# Altium schematic symbol library PCB_Project.SCHLIB: 8 symbols
Pins are listed as number, name and electrical type; pins without a type are passive.

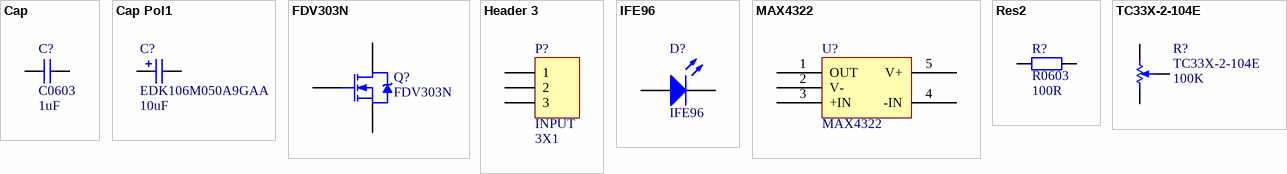
[diagram p0: symbols Cap to TC33X-2-104E]

## Cap
designator C?, comment C0603  value 1uF
Ceramic Capacitor
footprint 1608[0603] (Chip Capacitor, Body 1.6x0.8mm, IPC High Density)
pins: 1, 2

## Cap Pol1
designator C?, comment EDK106M050A9GAA  value 10uF
Aluminium Electrolytic Capacitor
footprint EDK106M050A9GAA (Aluminum Electrolytic Capacitor, Body 6,60x6,60x5,40mm, IPC Low Density)
pins: 1, 2
1 alternate drawing of the same symbol

## FDV303N
designator Q?
N-channel MOS FET Transistor
footprint SOT23_M (SOT23, 3-Leads, Body 2.9x1.3mm, Pitch 0.95mm, Lead Span 2.3mm - Reverse Pinning, IPC Low Density)
pins: 1 G, 2 D, 3 S

## Header 3
designator P?, comment INPUT  value 3X1
Header, 3-Pin
footprint HDR1X3 (Connector; Header; 3 Position)
pins: 1, 2, 3

## IFE96
designator D?
Red LED For PMMA
footprint IFE96
pins: 1 K, 2 A

## MAX4322
designator U?
Single Supply Operational Amplifier
footprint MAX4322_SOT23-5 (SOT23, 5-Leads, Body 2,90x2,80mm, Pitch 0,95mm, IPC Medium Density)
pins: 1 OUT, 2 V-, 3 +IN, 4 -IN, 5 V+

## Res2
designator R?, comment R0603  value 100R
Resistor
footprint J1-0603 (Chip Resistor, Body 1.6x0.8mm, IPC High Density)
pins: 1, 2

## TC33X-2-104E
designator R?  value 100K
Potentiometer
footprint TC33X-2-104E
pins: 1 +, 2 W, 3 -
1 alternate drawing of the same symbol